# Altium schematic symbol library 2021-06-29_13-51-31.SchLib: 2 symbols
Pins are listed as number, name and electrical type; pins without a type are passive.

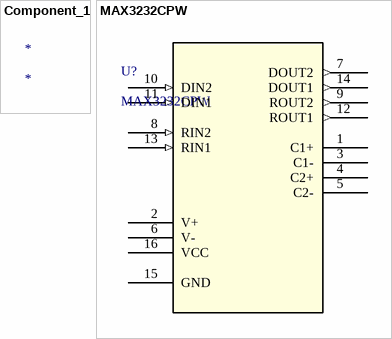
[diagram p0: symbols Component_1 to MAX3232CPW]

## Component_1
designator *

## MAX3232CPW
designator U?
3-V to 5.5-V Multichannel RS-232 Line Driver/Receiver; Manufacturer: Texas Instruments; INDUSTRY_STD_PKG_TYPE: TSSOP; PIN_COUNT: 16; PACKAGE_DESIGNATOR: PW; Datasheet_URL: http://www.ti.com/lit/gpn/MAX3232; FAMILY_NAME: RS-232; GENERIC_PART_NUMBER: MAX3232; Vendor: Texas Instruments; Manufacturer_Part_Number: MAX3232CPW; Copyright: Copyright (C) 2021 Accelerated Designs. All rights reserved; RefDes: RefDes; Type: DEV
footprint PW16
pins: 1 C1+, 2 V+ (power), 3 C1-, 4 C2+, 5 C2-, 6 V- (power), 7 DOUT2 (out), 8 RIN2 (in), 9 ROUT2 (out), 10 DIN2 (in), 11 DIN1 (in), 12 ROUT1 (out), 13 RIN1 (in), 14 DOUT1 (out), 15 GND (power), 16 VCC (power)